# EAGLE library part LB1848 (library common)
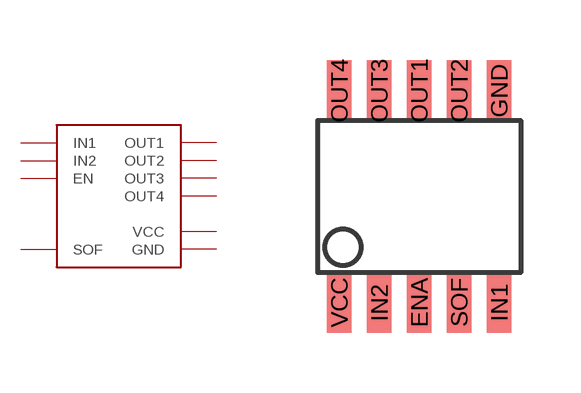
[diagram p41: symbol with the pads of SOIC10-1.0-5X4MM; footprint SOIC10-1.0-5X4MM]

Designator prefix -

## LB1848  [SOIC10-1.0-5X4MM]
ENA  EN
GND  GND
IN1  IN1
IN2  IN2
OUT1  OUT1
OUT2  OUT2
OUT3  OUT3
OUT4  OUT4
SOF  SOF
VCC  VCC

## Footprint SOIC10-1.0-5X4MM (pad centres in mm)
smd 0.61 x 1.524: ENA 0,-2.65; GND 2,2.65; IN1 2,-2.65; IN2 -1,-2.65; OUT1 0,2.65; OUT2 1,2.65; OUT3 -1,2.65; OUT4 -2,2.65; SOF 1,-2.65; VCC -2,-2.65